# Altium integrated library Analog Devices Data Converters Digital-to-Analog Converters.IntLib: 2231 symbols (part 170 of 181)
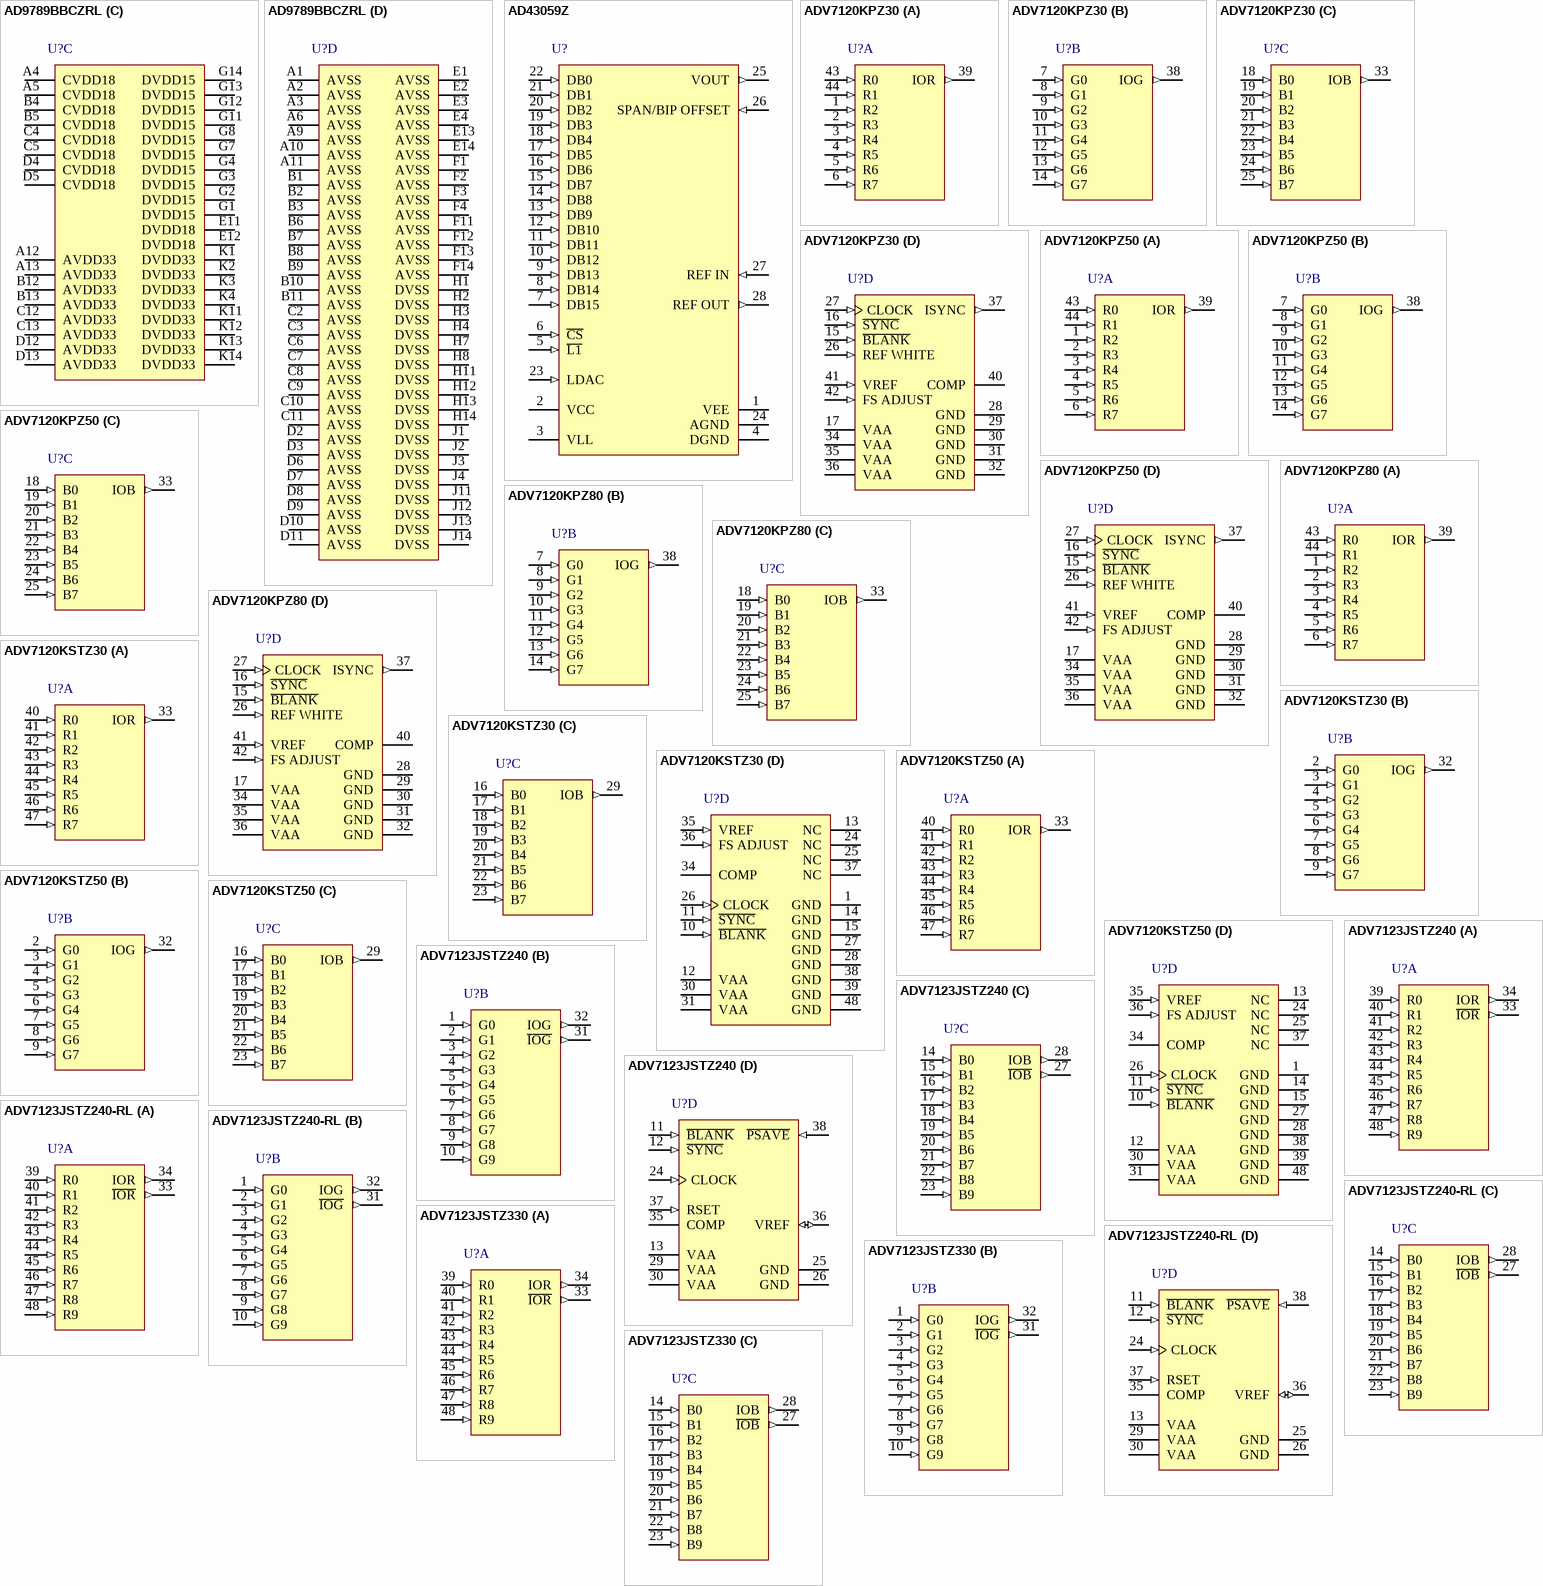
[diagram p283: symbols AD9789BBCZRL to ADV7123JSTZ330]

## AD9789BBCZRL
designator U?
14-Bit Digital-to-Analog Converter, 2400 Msps, -40 to +85 degC, BC-164-1, Pb-Free, Reel; Generic Part Number: AD9789; Manufacturer: Analog Devices; PartNumber: AD9789BBCZRL; # DAC Outputs: 1; Max V+: 3.47V; Op Pwr Diss: 1.7W; Resolution (Bits): 14; Settling Time: 13ns; Single Supply: No; DatasheetVersion: Rev.A; PackageVersion: 111808-A; PackageReference: BC-164-1; PackageDescription: 164-Ball Chip Scale Package Ball Grid Array [CSP_BGA]; Supplier 1: Digi-Key; Supplier Part Number 1: AD9789BBCZRL-ND; Supplier 2: Mouser; Supplier Part Number 2: 584-AD9789BBCZR; Packing: Reel; RoHS: Y; Mounting Technology: Surface Mount; Code_JEDEC: MO-219*; ComponentLink1Description: Manufacturer URL; ComponentLink1URL: http://www.analog.com/en/index.html; ComponentLink2Description: Datasheet; ComponentLink2URL: http://www.analog.com/static/imported-files/data_sheets/AD9789.pdf; ComponentLink3Description: Package Specification; ComponentLink3URL: http://www.analog.com/static/imported-files/packages/PKG_PDF/CSPBGA%20(BC)/BC_164_1.pdf; ComponentLink4Description: Product URL; ComponentLink4URL: http://www.analog.com/en/digital-to-analog-converters/da-converters/ad9789/products/product.html
footprint BC-164-1 (BGA, 164-Leads, Body 12x12mm, Pitch 0.8mm)
part A pins: A7 IOUTN (out) "DAC Negative Output Current.", A8 IOUTP (out) "DAC Positive Output Current.", L5 D31/D15P (in) "CMOS/LVDS Data Input.", L6 D27/D13P (in) "CMOS/LVDS Data Input.", L7 D23/D11P (in) "CMOS/LVDS Data Input.", L8 D19/D9P (in) "CMOS/LVDS Data Input.", L9 D15/D7P (in) "CMOS/LVDS Data Input.", L10 D11/D5P (in) "CMOS/LVDS Data Input.", L11 D7/D3P (in) "CMOS/LVDS Data Input.", L12 D3/D1P (in) "CMOS/LVDS Data Input.", M5 D30/D15N (in) "CMOS/LVDS Data Input.", M6 D26/D13N (in) "CMOS/LVDS Data Input.", M7 D22/D11N (in) "CMOS/LVDS Data Input.", M8 D18/D9N (in) "CMOS/LVDS Data Input.", M9 D14/D7N (in) "CMOS/LVDS Data Input.", M10 D10/D5N (in) "CMOS/LVDS Data Input.", M11 D6/D3N (in) "CMOS/LVDS Data Input.", M12 D2/D1N (in) "CMOS/LVDS Data Input.", N5 D29/D14P (in) "CMOS/LVDS Data Input.", N6 D25/D12P (in) "CMOS/LVDS Data Input.", N7 D21/D10P (in) "CMOS/LVDS Data Input.", N8 D17/D8P (in) "CMOS/LVDS Data Input.", N9 D13/D6P (in) "CMOS/LVDS Data Input.", N10 D9/D4P (in) "CMOS/LVDS Data Input.", N11 D5/D2P (in) "CMOS/LVDS Data Input.", N12 D1/D0P (in) "CMOS/LVDS Data Input.", P5 D28/D14N (in) "CMOS/LVDS Data Input.", P6 D24/D12N (in) "CMOS/LVDS Data Input.", P7 D20/D10N (in) "CMOS/LVDS Data Input.", P8 D16/D8N (in) "CMOS/LVDS Data Input.", P9 D12/D6N (in) "CMOS/LVDS Data Input.", P10 D8/D4N (in) "CMOS/LVDS Data Input.", P11 D4/D2N (in) "CMOS/LVDS Data Input.", P12 D0/D0N (in) "CMOS/LVDS Data Input."
part B pins: A14 NC "No Connect. Leave floating.", B14 I120 "Tie this pin to analog ground with a 10 k ohm resistor to generate a 120 uA reference current.", C1 CLKN (in) "Negative DAC Clock Input (DACCLK).", C14 VREF (io) "Band Gap Voltage Reference I/O. Decouple to analog ground with a 1 nF capacitor. Output impedance is approximately 5 k ohm.", D1 CLKP (in) "Positive DAC Clock Input (DACCLK).", D14 IPTAT "Factory Test Pin. Output current, proportional to absolute temperature, is approximately 10 uA at 25 dgeC with a slope of approximately 20 nA/ degC.", L1 ~{CS} (in) "Active Low Chip Select for SPI.", L2 NC "Not Used. Leave unconnected.", L3 NC "Not Used. Leave unconnected.", L4 P1/PARP (in) "CMOS/LVDS Parity Bit.", L13 FSP (out) "Positive LVDS Frame Sync (FSP) for Data Bus.", L14 CMOS_BUS (in) "Active High Input. Configures data bus for CMOS inputs. Low input configures data bus to accept LVDS inputs.", M1 SCLK (in) "Qualifying Clock for SPI.", M2 NC "Not Used. Leave unconnected.", M3 NC "Not Used. Leave unconnected.", M4 P0/PARN (in) "CMOS/LVDS Parity Bit.", M13 FSN (out) "Negative LVDS Frame Sync (FSN) for Data Bus.", M14 CMOS_CTRL (in) "Active High Input. Enables CMOS_DCO and CMOS_FS signals and disables DCOP/DCON and FSP/FSN signals. Low input disables CMOS_DCO and CMOS_FS signals and enables DCOP/DCON and FSP/FSN signals.", N1 SDO (hiz) "Serial Data Output for SPI.", N2 RESET (in) "Active High Input. Resets the AD9789.", N3 NC "Not Used. Leave unconnected.", N4 NC "Not Used. Leave unconnected.", N13 DCOP (out) "Positive LVDS Data Clock Output (DCOP) for Data Bus.", N14 CMOS_FS (in) "CMOS Frame Sync for Data Bus.", P1 SDIO (io) "Serial Data Input/Output for SPI.", P2 ~{IRQ} (oc) "Active Low, Open-Drain Interrupt Request Output. Pull up to DVDD33 with a 10 k ohm resistor.", P3 NC "Not Used. Leave unconnected.", P4 NC "Not Used. Leave unconnected.", P13 DCON (out) "Negative LVDS Data Clock Output (DCON) for Data Bus.", P14 CMOS_DCO (out) "CMOS Data Clock Output for Data Bus."
part C pins: A4 CVDD18 (power) "1.8 V Clock Supply.", A5 CVDD18 (power) "1.8 V Clock Supply.", A12 AVDD33 (power) "3.3 V Analog Supply.", A13 AVDD33 (power) "3.3 V Analog Supply.", B4 CVDD18 (power) "1.8 V Clock Supply.", B5 CVDD18 (power) "1.8 V Clock Supply.", B12 AVDD33 (power) "3.3 V Analog Supply.", B13 AVDD33 (power) "3.3 V Analog Supply.", C4 CVDD18 (power) "1.8 V Clock Supply.", C5 CVDD18 (power) "1.8 V Clock Supply.", C12 AVDD33 (power) "3.3 V Analog Supply.", C13 AVDD33 (power) "3.3 V Analog Supply.", D4 CVDD18 (power) "1.8 V Clock Supply.", D5 CVDD18 (power) "1.8 V Clock Supply.", D12 AVDD33 (power) "3.3 V Analog Supply.", D13 AVDD33 (power) "3.3 V Analog Supply.", E11 DVDD18 (power) "1.8 V Digital Supply.", E12 DVDD18 (power) "1.8 V Digital Supply.", G1 DVDD15 (power) "1.5 V Digital Supply.", G2 DVDD15 (power) "1.5 V Digital Supply.", G3 DVDD15 (power) "1.5 V Digital Supply.", G4 DVDD15 (power) "1.5 V Digital Supply.", G7 DVDD15 (power) "1.5 V Digital Supply.", G8 DVDD15 (power) "1.5 V Digital Supply.", G11 DVDD15 (power) "1.5 V Digital Supply.", G12 DVDD15 (power) "1.5 V Digital Supply.", G13 DVDD15 (power) "1.5 V Digital Supply.", G14 DVDD15 (power) "1.5 V Digital Supply.", K1 DVDD33 (power) "3.3 V Digital Supply.", K2 DVDD33 (power) "3.3 V Digital Supply.", K3 DVDD33 (power) "3.3 V Digital Supply.", K4 DVDD33 (power) "3.3 V Digital Supply.", K11 DVDD33 (power) "3.3 V Digital Supply.", K12 DVDD33 (power) "3.3 V Digital Supply.", K13 DVDD33 (power) "3.3 V Digital Supply.", K14 DVDD33 (power) "3.3 V Digital Supply."
part D pins: A1 AVSS (power) "Analog Supply Ground.", A2 AVSS (power) "Analog Supply Ground.", A3 AVSS (power) "Analog Supply Ground.", A6 AVSS (power) "Analog Supply Ground.", A9 AVSS (power) "Analog Supply Ground.", A10 AVSS (power) "Analog Supply Ground.", A11 AVSS (power) "Analog Supply Ground.", B1 AVSS (power) "Analog Supply Ground.", B2 AVSS (power) "Analog Supply Ground.", B3 AVSS (power) "Analog Supply Ground.", B6 AVSS (power) "Analog Supply Ground.", B7 AVSS (power) "Analog Supply Ground.", B8 AVSS (power) "Analog Supply Ground.", B9 AVSS (power) "Analog Supply Ground.", B10 AVSS (power) "Analog Supply Ground.", B11 AVSS (power) "Analog Supply Ground.", C2 AVSS (power) "Analog Supply Ground.", C3 AVSS (power) "Analog Supply Ground.", C6 AVSS (power) "Analog Supply Ground.", C7 AVSS (power) "Analog Supply Ground.", C8 AVSS (power) "Analog Supply Ground.", C9 AVSS (power) "Analog Supply Ground.", C10 AVSS (power) "Analog Supply Ground.", C11 AVSS (power) "Analog Supply Ground.", D2 AVSS (power) "Analog Supply Ground.", D3 AVSS (power) "Analog Supply Ground.", D6 AVSS (power) "Analog Supply Ground.", D7 AVSS (power) "Analog Supply Ground.", D8 AVSS (power) "Analog Supply Ground.", D9 AVSS (power) "Analog Supply Ground.", D10 AVSS (power) "Analog Supply Ground.", D11 AVSS (power) "Analog Supply Ground.", E1 AVSS (power) "Analog Supply Ground.", E2 AVSS (power) "Analog Supply Ground.", E3 AVSS (power) "Analog Supply Ground.", E4 AVSS (power) "Analog Supply Ground.", E13 AVSS (power) "Analog Supply Ground.", E14 AVSS (power) "Analog Supply Ground.", F1 AVSS (power) "Analog Supply Ground.", F2 AVSS (power) "Analog Supply Ground.", F3 AVSS (power) "Analog Supply Ground.", F4 AVSS (power) "Analog Supply Ground.", F11 AVSS (power) "Analog Supply Ground.", F12 AVSS (power) "Analog Supply Ground.", F13 AVSS (power) "Analog Supply Ground.", F14 AVSS (power) "Analog Supply Ground.", H1 DVSS (power) "Digital Supply Ground.", H2 DVSS (power) "Digital Supply Ground.", H3 DVSS (power) "Digital Supply Ground.", H4 DVSS (power) "Digital Supply Ground.", H7 DVSS (power) "Digital Supply Ground.", H8 DVSS (power) "Digital Supply Ground.", H11 DVSS (power) "Digital Supply Ground.", H12 DVSS (power) "Digital Supply Ground.", H13 DVSS (power) "Digital Supply Ground.", H14 DVSS (power) "Digital Supply Ground.", J1 DVSS (power) "Digital Supply Ground.", J2 DVSS (power) "Digital Supply Ground.", J3 DVSS (power) "Digital Supply Ground.", J4 DVSS (power) "Digital Supply Ground.", J11 DVSS (power) "Digital Supply Ground.", J12 DVSS (power) "Digital Supply Ground.", J13 DVSS (power) "Digital Supply Ground.", J14 DVSS (power) "Digital Supply Ground."

## AD43059Z
designator U?
Single 16-Bit Monolithic DACPORT, -40 to +85 degC, RW-28, Pb-Free, Tube; Generic Part Number: AD669; Manufacturer: Analog Devices; PartNumber: AD43059Z; # DAC Outputs: 1; Max V+: 16.5V; Op Pwr Diss: 625mW; Resolution (Bits): 16; Settling Time: 6µs; Single Supply: No; DatasheetVersion: Rev.A; PackageVersion: 060706-A; PackageReference: RW-28; PackageDescription: 28-Lead Standard Small Outline Package [SOIC_W]; Supplier 1: Mouser; Supplier Part Number 1: N/A; Packing: Tube; RoHS: Y; Mounting Technology: Surface Mount; Code_JEDEC: MS-013-AE; ComponentLink1Description: Manufacturer URL; ComponentLink1URL: http://www.analog.com/en/index.html; ComponentLink2Description: Datasheet; ComponentLink2URL: http://www.analog.com/static/imported-files/data_sheets/AD669.pdf; ComponentLink3Description: Product URL; ComponentLink3URL: http://www.analog.com/en/digital-to-analog-converters/da-converters/ad669/products/product.html
footprint RW-28_N (SOIC, 28-Leads, Body 17.9x7.5mm, Pitch 1.27mm, IPC Medium Density)
footprint RW-28_L (SOIC, 28-Leads, Body 17.9x7.5mm, Pitch 1.27mm, IPC High Density)
footprint RW-28_M (SOIC, 28-Leads, Body 17.9x7.5mm, Pitch 1.27mm, IPC Low Density)
pins: 1 VEE (power), 2 VCC (power), 3 VLL (power), 4 DGND (power), 5 ~{L1} (in), 6 ~{CS} (in), 7 DB15 (in), 8 DB14 (in), 9 DB13 (in), 10 DB12 (in), 11 DB11 (in), 12 DB10 (in), 13 DB9 (in), 14 DB8 (in), 15 DB7 (in), 16 DB6 (in), 17 DB5 (in), 18 DB4 (in), 19 DB3 (in), 20 DB2 (in), 21 DB1 (in), 22 DB0 (in), 23 LDAC (in), 24 AGND (power), 25 VOUT (out), 26 SPAN/BIP OFFSET (in), 27 REF IN (in), 28 REF OUT (out)

## ADV7120KPZ30
designator U?
3 Channel 8-Bit CMOS Video Digital-to-Analog Converter, 0 to +70 degC, P-44A, Pb-Free, Tube; Generic Part Number: ADV7120; Manufacturer: Analog Devices; PartNumber: ADV7120KPZ30; # DAC Outputs: 3; Max V+: 5.25V; Op Pwr Diss: 625mW; Resolution (Bits): 8; Settling Time: 12ns; Single Supply: Yes; DatasheetVersion: Rev.B; PackageVersion: 2003; PackageReference: P-44A; PackageDescription: 44-Lead Plastic Leaded Chip Carrier [PLCC]; Supplier 1: Digi-Key; Supplier Part Number 1: ADV7120KPZ30-ND; Supplier 2: Mouser; Supplier Part Number 2: 584-ADV7120KPZ30; Packing: Tube; RoHS: Y; Mounting Technology: Surface Mount; Code_JEDEC: MO-047-AC; Code_IPC: PLCC-44; ComponentLink1Description: Manufacturer URL; ComponentLink1URL: http://www.analog.com/en/index.html; ComponentLink2Description: Datasheet; ComponentLink2URL: http://www.analog.com/static/imported-files/data_sheets/ADV7120.pdf; ComponentLink3Description: Package Specification; ComponentLink3URL: http://www.analog.com/static/imported-files/packages/533756178731793364534243243792136664964P44A.pdf; ComponentLink4Description: Product URL; ComponentLink4URL: http://www.analog.com/en/digital-to-analog-converters/da-converters/adv7120/products/product.html
footprint P-44A_N (Leaded Chip Carrier, 44-Leads, Body 16.6x16.6mm, Pitch 1.27mm, IPC Medium Density)
footprint P-44A_L (Leaded Chip Carrier, 44-Leads, Body 16.6x16.6mm, Pitch 1.27mm, IPC High Density)
footprint P-44A_M (Leaded Chip Carrier, 44-Leads, Body 16.6x16.6mm, Pitch 1.27mm, IPC Low Density)
part A pins: 1 R2 (in) "Red pixel data input (TTL compatible). Pixel data is latched on the rising edge of CLOCK.Unused pixel data inputs should be connected to either the regular PCB power or ground plane.", 2 R3 (in) "Red pixel data input (TTL compatible). Pixel data is latched on the rising edge of CLOCK.Unused pixel data inputs should be connected to either the regular PCB power or ground plane.", 3 R4 (in) "Red pixel data input (TTL compatible). Pixel data is latched on the rising edge of CLOCK.Unused pixel data inputs should be connected to either the regular PCB power or ground plane.", 4 R5 (in) "Red pixel data input (TTL compatible). Pixel data is latched on the rising edge of CLOCK.Unused pixel data inputs should be connected to either the regular PCB power or ground plane.", 5 R6 (in) "Red pixel data input (TTL compatible). Pixel data is latched on the rising edge of CLOCK.Unused pixel data inputs should be connected to either the regular PCB power or ground plane.", 6 R7 (in) "Red pixel data input (TTL compatible). Pixel data is latched on the rising edge of CLOCK.Unused pixel data inputs should be connected to either the regular PCB power or ground plane.", 39 IOR (out) "Red current output.This high impedance current sources is capable of directly driving a doubly terminated 75 ohm coaxial cable. This current output should have similar output load whether or not this is being used.", 43 R0 (in) "Red pixel data input (TTL compatible). Pixel data is latched on the rising edge of CLOCK.R0 is the least significant data bits. Unused pixel data inputs should be connected to either the regular PCB power or ground plane.", 44 R1 (in) "Red pixel data input (TTL compatible). Pixel data is latched on the rising edge of CLOCK.Unused pixel data inputs should be connected to either the regular PCB power or ground plane."
part B pins: 7 G0 (in) "Green pixel data input (TTL compatible). Pixel data is latched on the rising edge of CLOCK.G0 is the least significant data bits. Unused pixel data inputs should be connected to either the regular PCB power or ground plane.", 8 G1 (in) "Green pixel data input (TTL compatible). Pixel data is latched on the rising edge of CLOCK.Unused pixel data inputs should be connected to either the regular PCB power or ground plane.", 9 G2 (in) "Green pixel data input (TTL compatible). Pixel data is latched on the rising edge of CLOCK.Unused pixel data inputs should be connected to either the regular PCB power or ground plane.", 10 G3 (in) "Green pixel data input (TTL compatible). Pixel data is latched on the rising edge of CLOCK.Unused pixel data inputs should be connected to either the regular PCB power or ground plane.", 11 G4 (in) "Green pixel data input (TTL compatible). Pixel data is latched on the rising edge of CLOCK.Unused pixel data inputs should be connected to either the regular PCB power or ground plane.", 12 G5 (in) "Green pixel data input (TTL compatible). Pixel data is latched on the rising edge of CLOCK.Unused pixel data inputs should be connected to either the regular PCB power or ground plane.", 13 G6 (in) "Green pixel data input (TTL compatible). Pixel data is latched on the rising edge of CLOCK.Unused pixel data inputs should be connected to either the regular PCB power or ground plane.", 14 G7 (in) "Green pixel data input (TTL compatible). Pixel data is latched on the rising edge of CLOCK.Unused pixel data inputs should be connected to either the regular PCB power or ground plane.", 38 IOG (out) "Green current output.This high impedance current sources is capable of directly driving a doubly terminated 75 ohm coaxial cable. This current output should have similar output load whether or not this is being used."
part C pins: 18 B0 (in) "Blue pixel data input (TTL compatible). Pixel data is latched on the rising edge of CLOCK.B0 is the least significant data bits. Unused pixel data inputs should be connected to either the regular PCB power or ground plane.", 19 B1 (in) "Blue pixel data input (TTL compatible). Pixel data is latched on the rising edge of CLOCK.Unused pixel data inputs should be connected to either the regular PCB power or ground plane.", 20 B2 (in) "Blue pixel data input (TTL compatible). Pixel data is latched on the rising edge of CLOCK.Unused pixel data inputs should be connected to either the regular PCB power or ground plane.", 21 B3 (in) "Blue pixel data input (TTL compatible). Pixel data is latched on the rising edge of CLOCK.Unused pixel data inputs should be connected to either the regular PCB power or ground plane.", 22 B4 (in) "Blue pixel data input (TTL compatible). Pixel data is latched on the rising edge of CLOCK.Unused pixel data inputs should be connected to either the regular PCB power or ground plane.", 23 B5 (in) "Blue pixel data input (TTL compatible). Pixel data is latched on the rising edge of CLOCK.Unused pixel data inputs should be connected to either the regular PCB power or ground plane.", 24 B6 (in) "Blue pixel data input (TTL compatible). Pixel data is latched on the rising edge of CLOCK.Unused pixel data inputs should be connected to either the regular PCB power or ground plane.", 25 B7 (in) "Blue pixel data input (TTL compatible). Pixel data is latched on the rising edge of CLOCK.Unused pixel data inputs should be connected to either the regular PCB power or ground plane.", 33 IOB (out) "Blue current output.This high impedance current sources is capable of directly driving a doubly terminated 75 ohm coaxial cable. This current output should have similar output load whether or not this is being used."
part D pins: 15 ~{BLANK} (in) "Composite blank control input (TTL compatible). A logic zero on this control input drives the analog out-puts, IOR, IOB and IOG, to the blanking level. The B\L\A\N\K\ signal is latched on the rising edge of CLOCK.While (See Datasheet)", 16 ~{SYNC} (in) "Composite sync control input (TTL compatible). A logical zero on the S\Y\N\C\ input switches off a 40 IRE current source on the ISYNC output. S\Y\N\C\ does not override any other control or data input; therefore, it should (See Datasheet)", 17 VAA (power) "Analog power supply (5 V +/- 5%). All VAA pins on the ADV7120 must be connected.", 26 REF WHITE (in) "Reference white control input (TTL compatible). A logical one on this input forces the IOR, IOG and IOB outputs to the white level, regardless of the pixel input data (R0-R7, G0-G7 and B0-B7). REF WHITE is latched on the (See Datasheet)", 27 CLOCK (in) "Clock input (TTL compatible). The rising edge of CLOCK latches the R0-R7, G0-G7, B0-B7, S\Y\N\C\,B\L\A\N\K\ and REF WHITE pixel and control inputs. It is typically the pixel clock rate of the video system.CLOCK should be (See Datasheet)", 28 GND (power) "Ground. All GND pins must be connected.", 29 GND (power) "Ground. All GND pins must be connected.", 30 GND (power) "Ground. All GND pins must be connected.", 31 GND (power) "Ground. All GND pins must be connected.", 32 GND (power) "Ground. All GND pins must be connected.", 34 VAA (power) "Analog power supply (5 V +/- 5%). All VAA pins on the ADV7120 must be connected.", 35 VAA (power) "Analog power supply (5 V +/- 5%). All VAA pins on the ADV7120 must be connected.", 36 VAA (power) "Analog power supply (5 V +/- 5%). All VAA pins on the ADV7120 must be connected.", 37 ISYNC (out) "Sync current output. This high impedance current source can be directly connected to the IOG output. This allows sync information to be encoded onto the green channel. ISYNC does not output any current while S\Y\N\C\ is at (See Datasheet)", 40 COMP "Compensation pin. This is a compensation pin for the internal reference amplifier. A 0.1 uF ceramic capacitor must be connected between COMP and VAA.", 41 VREF (in) "Voltage reference input. An external 1.2 V voltage reference must be connected to this pin. The use of an external resistor divider network is not recommended. A 0.1 uF decoupling ceramic capacitor should be connected (See Datasheet)", 42 FS ADJUST (in) "Full-scale adjust control. A resistor (RSET) connected between this pin and GND, controls the magnitude of the full-scale video signal. Note that the IRE relationships are maintained, regardless of the full-scale output (See Datasheet)"

## ADV7120KPZ50
designator U?
3 Channel 8-Bit CMOS Video Digital-to-Analog Converter, 0 to +70 degC, P-44A, Pb-Free, Tube; Generic Part Number: ADV7120; Manufacturer: Analog Devices; PartNumber: ADV7120KPZ50; # DAC Outputs: 3; Max V+: 5.25V; Op Pwr Diss: 625mW; Resolution (Bits): 8; Settling Time: 12ns; Single Supply: Yes; DatasheetVersion: Rev.B; PackageVersion: 2003; PackageReference: P-44A; PackageDescription: 44-Lead Plastic Leaded Chip Carrier [PLCC]; Supplier 1: Digi-Key; Supplier Part Number 1: ADV7120KPZ50-ND; Packing: Tube; RoHS: Y; Mounting Technology: Surface Mount; Code_JEDEC: MO-047-AC; Code_IPC: PLCC-44; ComponentLink1Description: Manufacturer URL; ComponentLink1URL: http://www.analog.com/en/index.html; ComponentLink2Description: Datasheet; ComponentLink2URL: http://www.analog.com/static/imported-files/data_sheets/ADV7120.pdf; ComponentLink3Description: Package Specification; ComponentLink3URL: http://www.analog.com/static/imported-files/packages/533756178731793364534243243792136664964P44A.pdf; ComponentLink4Description: Product URL; ComponentLink4URL: http://www.analog.com/en/digital-to-analog-converters/da-converters/adv7120/products/product.html
footprint P-44A_N (Leaded Chip Carrier, 44-Leads, Body 16.6x16.6mm, Pitch 1.27mm, IPC Medium Density)
footprint P-44A_L (Leaded Chip Carrier, 44-Leads, Body 16.6x16.6mm, Pitch 1.27mm, IPC High Density)
footprint P-44A_M (Leaded Chip Carrier, 44-Leads, Body 16.6x16.6mm, Pitch 1.27mm, IPC Low Density)
part A pins: 1 R2 (in) "Red pixel data input (TTL compatible). Pixel data is latched on the rising edge of CLOCK.Unused pixel data inputs should be connected to either the regular PCB power or ground plane.", 2 R3 (in) "Red pixel data input (TTL compatible). Pixel data is latched on the rising edge of CLOCK.Unused pixel data inputs should be connected to either the regular PCB power or ground plane.", 3 R4 (in) "Red pixel data input (TTL compatible). Pixel data is latched on the rising edge of CLOCK.Unused pixel data inputs should be connected to either the regular PCB power or ground plane.", 4 R5 (in) "Red pixel data input (TTL compatible). Pixel data is latched on the rising edge of CLOCK.Unused pixel data inputs should be connected to either the regular PCB power or ground plane.", 5 R6 (in) "Red pixel data input (TTL compatible). Pixel data is latched on the rising edge of CLOCK.Unused pixel data inputs should be connected to either the regular PCB power or ground plane.", 6 R7 (in) "Red pixel data input (TTL compatible). Pixel data is latched on the rising edge of CLOCK.Unused pixel data inputs should be connected to either the regular PCB power or ground plane.", 39 IOR (out) "Red current output.This high impedance current sources is capable of directly driving a doubly terminated 75 ohm coaxial cable. This current output should have similar output load whether or not this is being used.", 43 R0 (in) "Red pixel data input (TTL compatible). Pixel data is latched on the rising edge of CLOCK.R0 is the least significant data bits. Unused pixel data inputs should be connected to either the regular PCB power or ground plane.", 44 R1 (in) "Red pixel data input (TTL compatible). Pixel data is latched on the rising edge of CLOCK.Unused pixel data inputs should be connected to either the regular PCB power or ground plane."
part B pins: 7 G0 (in) "Green pixel data input (TTL compatible). Pixel data is latched on the rising edge of CLOCK.G0 is the least significant data bits. Unused pixel data inputs should be connected to either the regular PCB power or ground plane.", 8 G1 (in) "Green pixel data input (TTL compatible). Pixel data is latched on the rising edge of CLOCK.Unused pixel data inputs should be connected to either the regular PCB power or ground plane.", 9 G2 (in) "Green pixel data input (TTL compatible). Pixel data is latched on the rising edge of CLOCK.Unused pixel data inputs should be connected to either the regular PCB power or ground plane.", 10 G3 (in) "Green pixel data input (TTL compatible). Pixel data is latched on the rising edge of CLOCK.Unused pixel data inputs should be connected to either the regular PCB power or ground plane.", 11 G4 (in) "Green pixel data input (TTL compatible). Pixel data is latched on the rising edge of CLOCK.Unused pixel data inputs should be connected to either the regular PCB power or ground plane.", 12 G5 (in) "Green pixel data input (TTL compatible). Pixel data is latched on the rising edge of CLOCK.Unused pixel data inputs should be connected to either the regular PCB power or ground plane.", 13 G6 (in) "Green pixel data input (TTL compatible). Pixel data is latched on the rising edge of CLOCK.Unused pixel data inputs should be connected to either the regular PCB power or ground plane.", 14 G7 (in) "Green pixel data input (TTL compatible). Pixel data is latched on the rising edge of CLOCK.Unused pixel data inputs should be connected to either the regular PCB power or ground plane.", 38 IOG (out) "Green current output.This high impedance current sources is capable of directly driving a doubly terminated 75 ohm coaxial cable. This current output should have similar output load whether or not this is being used."
part C pins: 18 B0 (in) "Blue pixel data input (TTL compatible). Pixel data is latched on the rising edge of CLOCK.B0 is the least significant data bits. Unused pixel data inputs should be connected to either the regular PCB power or ground plane.", 19 B1 (in) "Blue pixel data input (TTL compatible). Pixel data is latched on the rising edge of CLOCK.Unused pixel data inputs should be connected to either the regular PCB power or ground plane.", 20 B2 (in) "Blue pixel data input (TTL compatible). Pixel data is latched on the rising edge of CLOCK.Unused pixel data inputs should be connected to either the regular PCB power or ground plane.", 21 B3 (in) "Blue pixel data input (TTL compatible). Pixel data is latched on the rising edge of CLOCK.Unused pixel data inputs should be connected to either the regular PCB power or ground plane.", 22 B4 (in) "Blue pixel data input (TTL compatible). Pixel data is latched on the rising edge of CLOCK.Unused pixel data inputs should be connected to either the regular PCB power or ground plane.", 23 B5 (in) "Blue pixel data input (TTL compatible). Pixel data is latched on the rising edge of CLOCK.Unused pixel data inputs should be connected to either the regular PCB power or ground plane.", 24 B6 (in) "Blue pixel data input (TTL compatible). Pixel data is latched on the rising edge of CLOCK.Unused pixel data inputs should be connected to either the regular PCB power or ground plane.", 25 B7 (in) "Blue pixel data input (TTL compatible). Pixel data is latched on the rising edge of CLOCK.Unused pixel data inputs should be connected to either the regular PCB power or ground plane.", 33 IOB (out) "Blue current output.This high impedance current sources is capable of directly driving a doubly terminated 75 ohm coaxial cable. This current output should have similar output load whether or not this is being used."
part D pins: 15 ~{BLANK} (in) "Composite blank control input (TTL compatible). A logic zero on this control input drives the analog out-puts, IOR, IOB and IOG, to the blanking level. The B\L\A\N\K\ signal is latched on the rising edge of CLOCK.While (See Datasheet)", 16 ~{SYNC} (in) "Composite sync control input (TTL compatible). A logical zero on the S\Y\N\C\ input switches off a 40 IRE current source on the ISYNC output. S\Y\N\C\ does not override any other control or data input; therefore, it should (See Datasheet)", 17 VAA (power) "Analog power supply (5 V +/- 5%). All VAA pins on the ADV7120 must be connected.", 26 REF WHITE (in) "Reference white control input (TTL compatible). A logical one on this input forces the IOR, IOG and IOB outputs to the white level, regardless of the pixel input data (R0-R7, G0-G7 and B0-B7). REF WHITE is latched on the (See Datasheet)", 27 CLOCK (in) "Clock input (TTL compatible). The rising edge of CLOCK latches the R0-R7, G0-G7, B0-B7, S\Y\N\C\,B\L\A\N\K\ and REF WHITE pixel and control inputs. It is typically the pixel clock rate of the video system.CLOCK should be (See Datasheet)", 28 GND (power) "Ground. All GND pins must be connected.", 29 GND (power) "Ground. All GND pins must be connected.", 30 GND (power) "Ground. All GND pins must be connected.", 31 GND (power) "Ground. All GND pins must be connected.", 32 GND (power) "Ground. All GND pins must be connected.", 34 VAA (power) "Analog power supply (5 V +/- 5%). All VAA pins on the ADV7120 must be connected.", 35 VAA (power) "Analog power supply (5 V +/- 5%). All VAA pins on the ADV7120 must be connected.", 36 VAA (power) "Analog power supply (5 V +/- 5%). All VAA pins on the ADV7120 must be connected.", 37 ISYNC (out) "Sync current output. This high impedance current source can be directly connected to the IOG output. This allows sync information to be encoded onto the green channel. ISYNC does not output any current while S\Y\N\C\ is at (See Datasheet)", 40 COMP "Compensation pin. This is a compensation pin for the internal reference amplifier. A 0.1 uF ceramic capacitor must be connected between COMP and VAA.", 41 VREF (in) "Voltage reference input. An external 1.2 V voltage reference must be connected to this pin. The use of an external resistor divider network is not recommended. A 0.1 uF decoupling ceramic capacitor should be connected (See Datasheet)", 42 FS ADJUST (in) "Full-scale adjust control. A resistor (RSET) connected between this pin and GND, controls the magnitude of the full-scale video signal. Note that the IRE relationships are maintained, regardless of the full-scale output (See Datasheet)"

## ADV7120KPZ80
designator U?
3 Channel 8-Bit CMOS Video Digital-to-Analog Converter, 0 to +70 degC, P-44A, Pb-Free, Tube; Generic Part Number: ADV7120; Manufacturer: Analog Devices; PartNumber: ADV7120KPZ80; # DAC Outputs: 3; Max V+: 5.25V; Op Pwr Diss: 625mW; Resolution (Bits): 8; Settling Time: 12ns; Single Supply: Yes; DatasheetVersion: Rev.B; PackageVersion: 2003; PackageReference: P-44A; PackageDescription: 44-Lead Plastic Leaded Chip Carrier [PLCC]; Supplier 1: Digi-Key; Supplier Part Number 1: ADV7120KPZ80-ND; Supplier 2: Newark; Supplier Part Number 2: 59K3311; Packing: Tube; RoHS: Y; Mounting Technology: Surface Mount; Code_JEDEC: MO-047-AC; Code_IPC: PLCC-44; ComponentLink1Description: Manufacturer URL; ComponentLink1URL: http://www.analog.com/en/index.html; ComponentLink2Description: Datasheet; ComponentLink2URL: http://www.analog.com/static/imported-files/data_sheets/ADV7120.pdf; ComponentLink3Description: Package Specification; ComponentLink3URL: http://www.analog.com/static/imported-files/packages/533756178731793364534243243792136664964P44A.pdf; ComponentLink4Description: Product URL; ComponentLink4URL: http://www.analog.com/en/digital-to-analog-converters/da-converters/adv7120/products/product.html
footprint P-44A_N (Leaded Chip Carrier, 44-Leads, Body 16.6x16.6mm, Pitch 1.27mm, IPC Medium Density)
footprint P-44A_L (Leaded Chip Carrier, 44-Leads, Body 16.6x16.6mm, Pitch 1.27mm, IPC High Density)
footprint P-44A_M (Leaded Chip Carrier, 44-Leads, Body 16.6x16.6mm, Pitch 1.27mm, IPC Low Density)
part A pins: 1 R2 (in) "Red pixel data input (TTL compatible). Pixel data is latched on the rising edge of CLOCK.Unused pixel data inputs should be connected to either the regular PCB power or ground plane.", 2 R3 (in) "Red pixel data input (TTL compatible). Pixel data is latched on the rising edge of CLOCK.Unused pixel data inputs should be connected to either the regular PCB power or ground plane.", 3 R4 (in) "Red pixel data input (TTL compatible). Pixel data is latched on the rising edge of CLOCK.Unused pixel data inputs should be connected to either the regular PCB power or ground plane.", 4 R5 (in) "Red pixel data input (TTL compatible). Pixel data is latched on the rising edge of CLOCK.Unused pixel data inputs should be connected to either the regular PCB power or ground plane.", 5 R6 (in) "Red pixel data input (TTL compatible). Pixel data is latched on the rising edge of CLOCK.Unused pixel data inputs should be connected to either the regular PCB power or ground plane.", 6 R7 (in) "Red pixel data input (TTL compatible). Pixel data is latched on the rising edge of CLOCK.Unused pixel data inputs should be connected to either the regular PCB power or ground plane.", 39 IOR (out) "Red current output.This high impedance current sources is capable of directly driving a doubly terminated 75 ohm coaxial cable. This current output should have similar output load whether or not this is being used.", 43 R0 (in) "Red pixel data input (TTL compatible). Pixel data is latched on the rising edge of CLOCK.R0 is the least significant data bits. Unused pixel data inputs should be connected to either the regular PCB power or ground plane.", 44 R1 (in) "Red pixel data input (TTL compatible). Pixel data is latched on the rising edge of CLOCK.Unused pixel data inputs should be connected to either the regular PCB power or ground plane."
part B pins: 7 G0 (in) "Green pixel data input (TTL compatible). Pixel data is latched on the rising edge of CLOCK.G0 is the least significant data bits. Unused pixel data inputs should be connected to either the regular PCB power or ground plane.", 8 G1 (in) "Green pixel data input (TTL compatible). Pixel data is latched on the rising edge of CLOCK.Unused pixel data inputs should be connected to either the regular PCB power or ground plane.", 9 G2 (in) "Green pixel data input (TTL compatible). Pixel data is latched on the rising edge of CLOCK.Unused pixel data inputs should be connected to either the regular PCB power or ground plane.", 10 G3 (in) "Green pixel data input (TTL compatible). Pixel data is latched on the rising edge of CLOCK.Unused pixel data inputs should be connected to either the regular PCB power or ground plane.", 11 G4 (in) "Green pixel data input (TTL compatible). Pixel data is latched on the rising edge of CLOCK.Unused pixel data inputs should be connected to either the regular PCB power or ground plane.", 12 G5 (in) "Green pixel data input (TTL compatible). Pixel data is latched on the rising edge of CLOCK.Unused pixel data inputs should be connected to either the regular PCB power or ground plane.", 13 G6 (in) "Green pixel data input (TTL compatible). Pixel data is latched on the rising edge of CLOCK.Unused pixel data inputs should be connected to either the regular PCB power or ground plane.", 14 G7 (in) "Green pixel data input (TTL compatible). Pixel data is latched on the rising edge of CLOCK.Unused pixel data inputs should be connected to either the regular PCB power or ground plane.", 38 IOG (out) "Green current output.This high impedance current sources is capable of directly driving a doubly terminated 75 ohm coaxial cable. This current output should have similar output load whether or not this is being used."
part C pins: 18 B0 (in) "Blue pixel data input (TTL compatible). Pixel data is latched on the rising edge of CLOCK.B0 is the least significant data bits. Unused pixel data inputs should be connected to either the regular PCB power or ground plane.", 19 B1 (in) "Blue pixel data input (TTL compatible). Pixel data is latched on the rising edge of CLOCK.Unused pixel data inputs should be connected to either the regular PCB power or ground plane.", 20 B2 (in) "Blue pixel data input (TTL compatible). Pixel data is latched on the rising edge of CLOCK.Unused pixel data inputs should be connected to either the regular PCB power or ground plane.", 21 B3 (in) "Blue pixel data input (TTL compatible). Pixel data is latched on the rising edge of CLOCK.Unused pixel data inputs should be connected to either the regular PCB power or ground plane.", 22 B4 (in) "Blue pixel data input (TTL compatible). Pixel data is latched on the rising edge of CLOCK.Unused pixel data inputs should be connected to either the regular PCB power or ground plane.", 23 B5 (in) "Blue pixel data input (TTL compatible). Pixel data is latched on the rising edge of CLOCK.Unused pixel data inputs should be connected to either the regular PCB power or ground plane.", 24 B6 (in) "Blue pixel data input (TTL compatible). Pixel data is latched on the rising edge of CLOCK.Unused pixel data inputs should be connected to either the regular PCB power or ground plane.", 25 B7 (in) "Blue pixel data input (TTL compatible). Pixel data is latched on the rising edge of CLOCK.Unused pixel data inputs should be connected to either the regular PCB power or ground plane.", 33 IOB (out) "Blue current output.This high impedance current sources is capable of directly driving a doubly terminated 75 ohm coaxial cable. This current output should have similar output load whether or not this is being used."
part D pins: 15 ~{BLANK} (in) "Composite blank control input (TTL compatible). A logic zero on this control input drives the analog out-puts, IOR, IOB and IOG, to the blanking level. The B\L\A\N\K\ signal is latched on the rising edge of CLOCK.While (See Datasheet)", 16 ~{SYNC} (in) "Composite sync control input (TTL compatible). A logical zero on the S\Y\N\C\ input switches off a 40 IRE current source on the ISYNC output. S\Y\N\C\ does not override any other control or data input; therefore, it should (See Datasheet)", 17 VAA (power) "Analog power supply (5 V +/- 5%). All VAA pins on the ADV7120 must be connected.", 26 REF WHITE (in) "Reference white control input (TTL compatible). A logical one on this input forces the IOR, IOG and IOB outputs to the white level, regardless of the pixel input data (R0-R7, G0-G7 and B0-B7). REF WHITE is latched on the (See Datasheet)", 27 CLOCK (in) "Clock input (TTL compatible). The rising edge of CLOCK latches the R0-R7, G0-G7, B0-B7, S\Y\N\C\,B\L\A\N\K\ and REF WHITE pixel and control inputs. It is typically the pixel clock rate of the video system.CLOCK should be (See Datasheet)", 28 GND (power) "Ground. All GND pins must be connected.", 29 GND (power) "Ground. All GND pins must be connected.", 30 GND (power) "Ground. All GND pins must be connected.", 31 GND (power) "Ground. All GND pins must be connected.", 32 GND (power) "Ground. All GND pins must be connected.", 34 VAA (power) "Analog power supply (5 V +/- 5%). All VAA pins on the ADV7120 must be connected.", 35 VAA (power) "Analog power supply (5 V +/- 5%). All VAA pins on the ADV7120 must be connected.", 36 VAA (power) "Analog power supply (5 V +/- 5%). All VAA pins on the ADV7120 must be connected.", 37 ISYNC (out) "Sync current output. This high impedance current source can be directly connected to the IOG output. This allows sync information to be encoded onto the green channel. ISYNC does not output any current while S\Y\N\C\ is at (See Datasheet)", 40 COMP "Compensation pin. This is a compensation pin for the internal reference amplifier. A 0.1 uF ceramic capacitor must be connected between COMP and VAA.", 41 VREF (in) "Voltage reference input. An external 1.2 V voltage reference must be connected to this pin. The use of an external resistor divider network is not recommended. A 0.1 uF decoupling ceramic capacitor should be connected (See Datasheet)", 42 FS ADJUST (in) "Full-scale adjust control. A resistor (RSET) connected between this pin and GND, controls the magnitude of the full-scale video signal. Note that the IRE relationships are maintained, regardless of the full-scale output (See Datasheet)"

## ADV7120KSTZ30
designator U?
3 Channel 8-Bit CMOS Video Digital-to-Analog Converter, 0 to +70 degC, ST-48, Pb-Free, Tray; Generic Part Number: ADV7120; Manufacturer: Analog Devices; PartNumber: ADV7120KSTZ30; # DAC Outputs: 3; Max V+: 5.25V; Op Pwr Diss: 625mW; Resolution (Bits): 8; Settling Time: 12ns; Single Supply: Yes; DatasheetVersion: Rev.B; PackageVersion: revA; PackageReference: ST-48; PackageDescription: 48-Pin Thin Quad Flat Pack 0.5 mm Pitch; Supplier 1: Digi-Key; Supplier Part Number 1: ADV7120KSTZ30-ND; Supplier 2: Farnell; Supplier Part Number 2: 1438731; Supplier 3: Mouser; Supplier Part Number 3: 584-ADV7120KSTZ30; Packing: Tray; RoHS: Y; Mounting Technology: Surface Mount; ComponentLink1Description: Manufacturer URL; ComponentLink1URL: http://www.analog.com/en/index.html; ComponentLink2Description: Datasheet; ComponentLink2URL: http://www.analog.com/static/imported-files/data_sheets/ADV7120.pdf; ComponentLink3Description: Package Specification; ComponentLink3URL: http://www.analog.com/static/imported-files/packages/PKG_PDF/LQFP%28ST%29/ST_48.pdf; ComponentLink4Description: Product URL; ComponentLink4URL: http://www.analog.com/en/digital-to-analog-converters/da-converters/adv7120/products/product.html
footprint ST-48_N (Thin QFP, 48-Leads, Body 7x7mm, Pitch 0.5mm, IPC Medium Density)
footprint ST-48_L (Thin QFP, 48-Leads, Body 7x7mm, Pitch 0.5mm, IPC High Density)
footprint ST-48_M (Thin QFP, 48-Leads, Body 7x7mm, Pitch 0.5mm, IPC Low Density)
part A pins: 33 IOR (out) "Red current output.This high impedance current sources is capable of directly driving a doubly terminated 75 ohm coaxial cable. This current output should have similar output load whether or not this is being used.", 40 R0 (in) "Red pixel data input (TTL compatible). Pixel data is latched on the rising edge of CLOCK.R0 is the least significant data bits. Unused pixel data inputs should be connected to either the regular PCB power or ground plane.", 41 R1 (in) "Red pixel data input (TTL compatible). Pixel data is latched on the rising edge of CLOCK.Unused pixel data inputs should be connected to either the regular PCB power or ground plane.", 42 R2 (in) "Red pixel data input (TTL compatible). Pixel data is latched on the rising edge of CLOCK.Unused pixel data inputs should be connected to either the regular PCB power or ground plane.", 43 R3 (in) "Red pixel data input (TTL compatible). Pixel data is latched on the rising edge of CLOCK.Unused pixel data inputs should be connected to either the regular PCB power or ground plane.", 44 R4 (in) "Red pixel data input (TTL compatible). Pixel data is latched on the rising edge of CLOCK.Unused pixel data inputs should be connected to either the regular PCB power or ground plane.", 45 R5 (in) "Red pixel data input (TTL compatible). Pixel data is latched on the rising edge of CLOCK.Unused pixel data inputs should be connected to either the regular PCB power or ground plane.", 46 R6 (in) "Red pixel data input (TTL compatible). Pixel data is latched on the rising edge of CLOCK.Unused pixel data inputs should be connected to either the regular PCB power or ground plane.", 47 R7 (in) "Red pixel data input (TTL compatible). Pixel data is latched on the rising edge of CLOCK.Unused pixel data inputs should be connected to either the regular PCB power or ground plane."
part B pins: 2 G0 (in) "Green pixel data input (TTL compatible). Pixel data is latched on the rising edge of CLOCK.G0 is the least significant data bits. Unused pixel data inputs should be connected to either the regular PCB power or ground plane.", 3 G1 (in) "Green pixel data input (TTL compatible). Pixel data is latched on the rising edge of CLOCK.Unused pixel data inputs should be connected to either the regular PCB power or ground plane.", 4 G2 (in) "Green pixel data input (TTL compatible). Pixel data is latched on the rising edge of CLOCK.Unused pixel data inputs should be connected to either the regular PCB power or ground plane.", 5 G3 (in) "Green pixel data input (TTL compatible). Pixel data is latched on the rising edge of CLOCK.Unused pixel data inputs should be connected to either the regular PCB power or ground plane.", 6 G4 (in) "Green pixel data input (TTL compatible). Pixel data is latched on the rising edge of CLOCK.Unused pixel data inputs should be connected to either the regular PCB power or ground plane.", 7 G5 (in) "Green pixel data input (TTL compatible). Pixel data is latched on the rising edge of CLOCK.Unused pixel data inputs should be connected to either the regular PCB power or ground plane.", 8 G6 (in) "Green pixel data input (TTL compatible). Pixel data is latched on the rising edge of CLOCK.Unused pixel data inputs should be connected to either the regular PCB power or ground plane.", 9 G7 (in) "Green pixel data input (TTL compatible). Pixel data is latched on the rising edge of CLOCK.Unused pixel data inputs should be connected to either the regular PCB power or ground plane.", 32 IOG (out) "Green current output.This high impedance current sources is capable of directly driving a doubly terminated 75 ohm coaxial cable. This current output should have similar output load whether or not this is being used."
part C pins: 16 B0 (in) "Blue pixel data input (TTL compatible). Pixel data is latched on the rising edge of CLOCK.B0 is the least significant data bits. Unused pixel data inputs should be connected to either the regular PCB power or ground plane.", 17 B1 (in) "Blue pixel data input (TTL compatible). Pixel data is latched on the rising edge of CLOCK.Unused pixel data inputs should be connected to either the regular PCB power or ground plane.", 18 B2 (in) "Blue pixel data input (TTL compatible). Pixel data is latched on the rising edge of CLOCK.Unused pixel data inputs should be connected to either the regular PCB power or ground plane.", 19 B3 (in) "Blue pixel data input (TTL compatible). Pixel data is latched on the rising edge of CLOCK.Unused pixel data inputs should be connected to either the regular PCB power or ground plane.", 20 B4 (in) "Blue pixel data input (TTL compatible). Pixel data is latched on the rising edge of CLOCK.Unused pixel data inputs should be connected to either the regular PCB power or ground plane.", 21 B5 (in) "Blue pixel data input (TTL compatible). Pixel data is latched on the rising edge of CLOCK.Unused pixel data inputs should be connected to either the regular PCB power or ground plane.", 22 B6 (in) "Blue pixel data input (TTL compatible). Pixel data is latched on the rising edge of CLOCK.Unused pixel data inputs should be connected to either the regular PCB power or ground plane.", 23 B7 (in) "Blue pixel data input (TTL compatible). Pixel data is latched on the rising edge of CLOCK.Unused pixel data inputs should be connected to either the regular PCB power or ground plane.", 29 IOB (out) "Blue current output.This high impedance current sources is capable of directly driving a doubly terminated 75 ohm coaxial cable. This current output should have similar output load whether or not this is being used."
part D pins: 1 GND (power) "Ground. All GND pins must be connected.", 10 ~{BLANK} (in) "Composite blank control input (TTL compatible). A logic zero on this control input drives the analog out-puts, IOR, IOB and IOG, to the blanking level. The B\L\A\N\K\ signal is latched on the rising edge of CLOCK.While (See Datasheet)", 11 ~{SYNC} (in) "Composite sync control input (TTL compatible). A logical zero on the S\Y\N\C\ input switches off a 40 IRE current source on the ISYNC output. S\Y\N\C\ does not override any other control or data input; therefore, it should (See Datasheet)", 12 VAA (power) "Analog power supply (5 V +/- 5%). All VAA pins on the ADV7120 must be connected.", 13 NC "No connection", 14 GND (power) "Ground. All GND pins must be connected.", 15 GND (power) "Ground. All GND pins must be connected.", 24 NC "No connection", 25 NC "No connection", 26 CLOCK (in) "Clock input (TTL compatible). The rising edge of CLOCK latches the R0-R7, G0-G7, B0-B7, S\Y\N\C\,B\L\A\N\K\ and REF WHITE pixel and control inputs. It is typically the pixel clock rate of the video system.CLOCK should be (See Datasheet)", 27 GND (power) "Ground. All GND pins must be connected.", 28 GND (power) "Ground. All GND pins must be connected.", 30 VAA (power) "Analog power supply (5 V +/- 5%). All VAA pins on the ADV7120 must be connected.", 31 VAA (power) "Analog power supply (5 V +/- 5%). All VAA pins on the ADV7120 must be connected.", 34 COMP "Compensation pin. This is a compensation pin for the internal reference amplifier. A 0.1 µF ceramic capacitor must be connected between COMP and VAA.", 35 VREF (in) "Voltage reference input. An external 1.2 V voltage reference must be connected to this pin. The use of an external resistor divider network is not recommended. A 0.1 µF decoupling ceramic capacitor should be connected (See Datasheet)", 36 FS ADJUST (in) "Full-scale adjust control. A resistor (RSET) connected between this pin and GND, controls the magnitude of the full-scale video signal. Note that the IRE relationships are maintained, regardless of the full-scale output (See Datasheet)", 37 NC "No connection", 38 GND (power) "Ground. All GND pins must be connected.", 39 GND (power) "Ground. All GND pins must be connected.", 48 GND (power) "Ground. All GND pins must be connected."